# EAGLE library part PIC18(L)F45K50-?(44PIN) (library Gekkio-microchip)
44-Pin, Low-Power, High-Performance Microcontrollers with XLP Technology
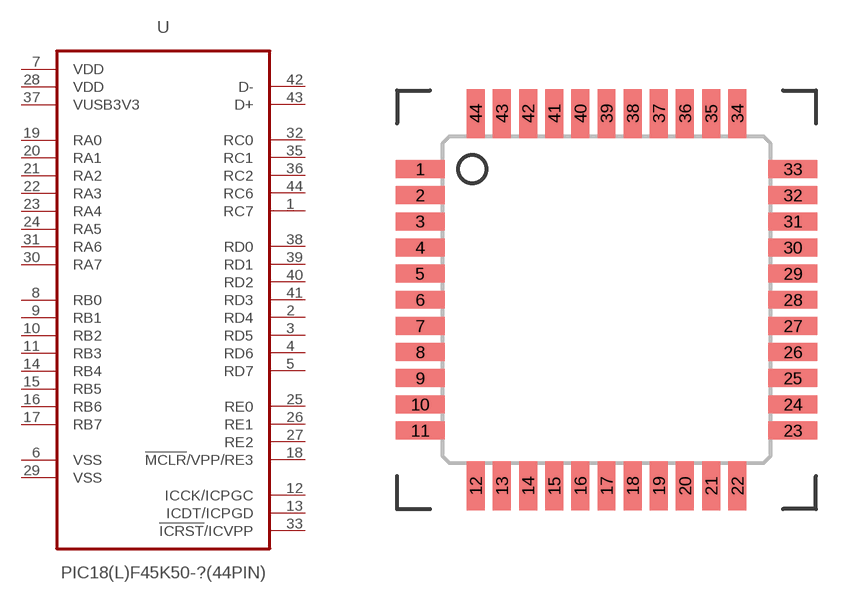
[diagram p0: symbol with the pads of TQFP44(PT); footprint TQFP44(PT)]

Designator prefix U

## PIC18(L)F45K50-PT(44PIN)  [TQFP44(PT)]
1  RC7
2  RD4
3  RD5
4  RD6
5  RD7
6  VSS  pwr
7  VDD  pwr
8  RB0
9  RB1
10  RB2
11  RB3
12  ICCK/ICPGC
13  ICDT/ICPGD
14  RB4
15  RB5
16  RB6
17  RB7
18  !MCLR!/VPP/RE3
19  RA0
20  RA1
21  RA2
22  RA3
23  RA4
24  RA5
25  RE0
26  RE1
27  RE2
28  VDD  pwr
29  VSS  pwr
30  RA7
31  RA6
32  RC0
33  !ICRST!/ICVPP
35  RC1
36  RC2
37  VUSB3V3  pwr
38  RD0
39  RD1
40  RD2
41  RD3
42  D-  pas
43  D+  pas
44  RC6

## Footprint TQFP44(PT) (pad centres in mm)
TQFP44 (PT) 44-Lead Plastic Thin Quad Flatpack (PT) - 10x10x1 mm Body, 2.00 mm Footprint [TQFP] Tested Source: Microchip Packaging Specification, revision CE
smd 1.5 x 0.55: 1 -5.7,4; 2 -5.7,3.2; 3 -5.7,2.4; 4 -5.7,1.6; 5 -5.7,0.8; 6 -5.7,0; 7 -5.7,-0.8; 8 -5.7,-1.6; 9 -5.7,-2.4; 10 -5.7,-3.2; 11 -5.7,-4; 23 5.7,-4; 24 5.7,-3.2; 25 5.7,-2.4; 26 5.7,-1.6; 27 5.7,-0.8; 28 5.7,0; 29 5.7,0.8; 30 5.7,1.6; 31 5.7,2.4; 32 5.7,3.2; 33 5.7,4
smd 0.55 x 1.5: 12 -4,-5.7; 13 -3.2,-5.7; 14 -2.4,-5.7; 15 -1.6,-5.7; 16 -0.8,-5.7; 17 0,-5.7; 18 0.8,-5.7; 19 1.6,-5.7; 20 2.4,-5.7; 21 3.2,-5.7; 22 4,-5.7; 34 4,5.7; 35 3.2,5.7; 36 2.4,5.7; 37 1.6,5.7; 38 0.8,5.7; 39 0,5.7; 40 -0.8,5.7; 41 -1.6,5.7; 42 -2.4,5.7; 43 -3.2,5.7; 44 -4,5.7